# EAGLE library part STUSB4500 (library ICs)
USB Controller USB 2.0 I²C Interface 24-QFN-EP (4x4)
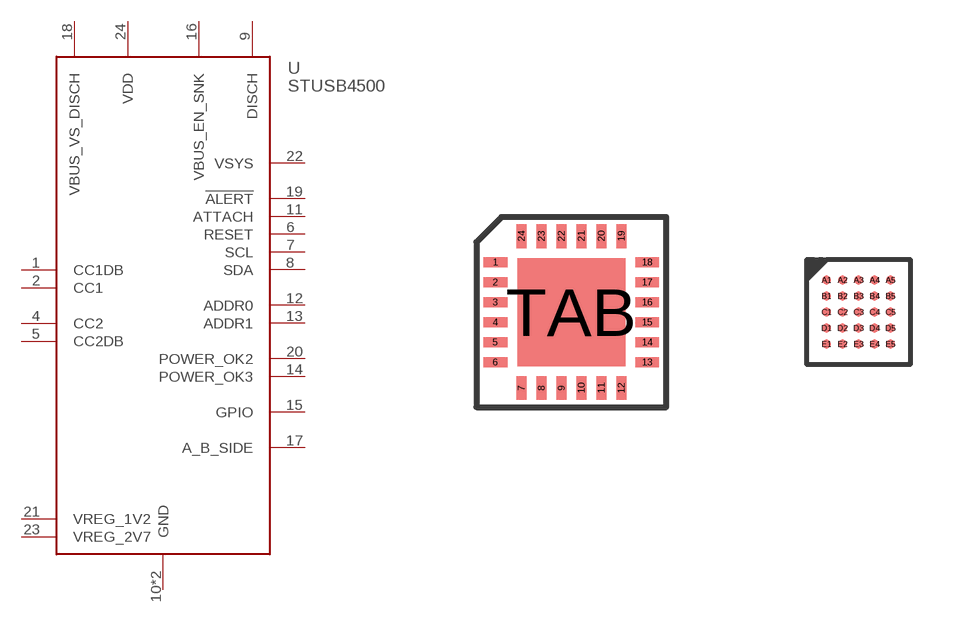
[diagram p247: symbol with the pads of QFN24; footprints QFN24, WLCSP25]

Designator prefix U

## STUSB4500QTR (DIGIKEY: 497-18060-1-ND; HEIGHT: 1; PRICE_PER: 1.33; VALUE: STUSB4500)  [QFN24]
1  CC1DB
2  CC1
4  CC2
5  CC2DB
6  RESET
7  SCL
8  SDA
9  DISCH
10  GND
11  ATTACH
12  ADDR0
13  ADDR1
14  POWER_OK3
15  GPIO
16  VBUS_EN_SNK
17  A_B_SIDE
18  VBUS_VS_DISCH
19  !ALERT
20  POWER_OK2
21  VREG_1V2
22  VSYS
23  VREG_2V7
24  VDD
TAB  GND

## STUSB4500LBJR (DIGIKEY: 497-STUSB4500LBJRCT-ND; HEIGHT: 1; PRICE_PER: 2.75; VALUE: STUSB4500)  [WLCSP25]
A1  VBUS_VS_DISCH
A2  POWER_OK2
A3  VREG_1V2
A4  VREG_2V7
A5  VDD
B1  VSYS
B2  !ALERT
B4  CC1DB
B5  CC1
C1  VBUS_EN_SNK
C2  A_B_SIDE
C4  CC2DB
C5  CC2
D1  GPIO
D2  ADDR1
D3  ADDR0
D4  RESET
D5  SCL
E1  POWER_OK3
E2  ATTACH
E3  GND
E4  DISCH
E5  SDA

## Footprint QFN24 (pad centres in mm)
smd 0.6 x 0.25: 1 -1.9,1.25; 2 -1.9,0.75; 3 -1.9,0.25; 4 -1.9,-0.25; 5 -1.9,-0.75; 6 -1.9,-1.25; 13 1.9,-1.25; 14 1.9,-0.75; 15 1.9,-0.25; 16 1.9,0.25; 17 1.9,0.75; 18 1.9,1.25
smd 0.25 x 0.6: 7 -1.25,-1.9; 8 -0.75,-1.9; 9 -0.25,-1.9; 10 0.25,-1.9; 11 0.75,-1.9; 12 1.25,-1.9; 19 1.25,1.9; 20 0.75,1.9; 21 0.25,1.9; 22 -0.25,1.9; 23 -0.75,1.9; 24 -1.25,1.9
smd 2.7 x 2.7: TAB 0,0

## Footprint WLCSP25 (pad centres in mm)
smd 0.22 x 0.22: A1 -0.8,0.8; A2 -0.4,0.8; A3 0,0.8; A4 0.4,0.8; A5 0.8,0.8; B1 -0.8,0.4; B2 -0.4,0.4; B3 0,0.4; B4 0.4,0.4; B5 0.8,0.4; C1 -0.8,0; C2 -0.4,0; C3 0,0; C4 0.4,0; C5 0.8,0; D1 -0.8,-0.4; D2 -0.4,-0.4; D3 0,-0.4; D4 0.4,-0.4; D5 0.8,-0.4; E1 -0.8,-0.8; E2 -0.4,-0.8; E3 0,-0.8; E4 0.4,-0.8; E5 0.8,-0.8